# Altium schematic symbol library U_LIN_PHY_8P.SchLib: 1 symbol
Pins are listed as number, name and electrical type; pins without a type are passive.

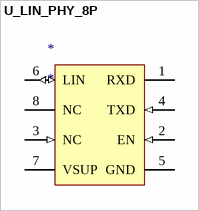
[diagram p0: symbol U_LIN_PHY_8P]

## U_LIN_PHY_8P
designator *
pins: 1 RXD (oc) "Receive Data Output; Low in Dominant State; Open-Drain Output", 2 EN (in) "Enable Input, Transceiver in Normal Operation Mode when High, Pull-down Resistor to GND", 3 NC (in) "High Voltage Digital Input Pin to Apply Local Wake-up, Sensitive to Falling Edge, Pull-up Current Source to VBB", 4 TXD (in) "Transmit Data Input, Low for Dominant State, Pull-down to GND (Switchable Strength for Wake-up Source Recognition)", 5 GND (power) "Ground", 6 LIN (io) "LIN Bus Output/Input", 7 VSUP (power) "Battery Supply Input", 8 NC (oc) "Inhibit Output, Switch Between INH and VBB can be Used to Control External Regulator or Pull-up Resistor on LIN Bus"